# Altium footprint library DCDC_Converter_4_Channel.PcbLib: 29 footprints (part 2 of 2)
Each footprint in its own frame and in the unit in brackets; x right, y up, seen from the top. Pads: shape width x height; smd on the part's side, far side on the other; paste and mask are expansions set on the pad; w line width, h text height; cw(c..) or ccw(c..) is an arc to the next point about the centre after c.
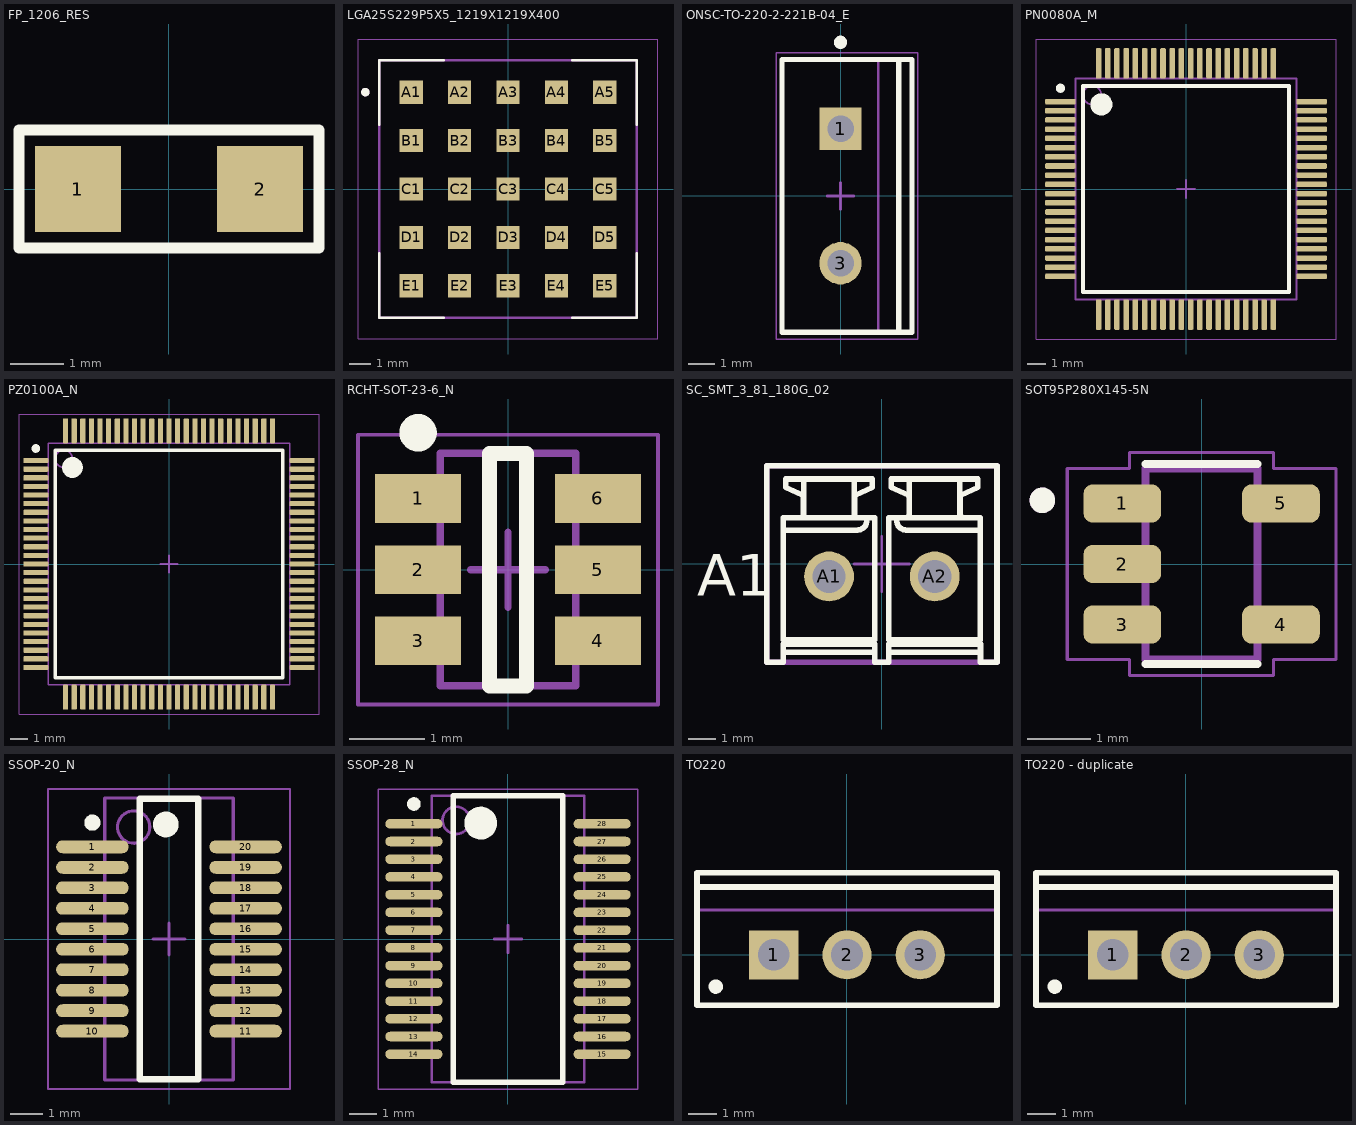
[diagram p1: the footprints below, top view; thin cyan lines are the x and y axes]

## FP_1206_RES [mm] "1206 ellenállás"
height 0.5
pads (2):
  rect 1.6x1.6 smd: 1(-1.7,0) 2(1.7,0)
Top Overlay:
  lines w0.2: -2.8,-1.1 -2.8,1.1 2.8,1.1 2.8,-1.1 -2.8,-1.1
3D body "1206RES.STEP": height 0.62, standoff 0.02, extent -1.6,-0.8 1.6,0.8

## LGA25S229P5X5_1219X1219X400 [mm]
pads (25):
  rect 1.1x1.1 smd: A1(-4.58,4.58) A2(-2.29,4.58) A3(0,4.58) A4(2.29,4.58) A5(4.58,4.58) B1(-4.58,2.29) B2(-2.29,2.29) B3(0,2.29) B4(2.29,2.29) B5(4.58,2.29) C1(-4.58,0) C2(-2.29,0) C3(0,0) C4(2.29,0) C5(4.58,0) D1(-4.58,-2.29) D2(-2.29,-2.29) D3(0,-2.29) D4(2.29,-2.29) D5(4.58,-2.29) E1(-4.58,-4.58) E2(-2.29,-4.58) E3(0,-4.58) E4(2.29,-4.58) E5(4.58,-4.58)
Top Overlay:
  circle w0.2: c-6.75,4.58 r0.1
  lines w0.127: -6.095,-3.05 -6.095,-6.095 -3.05,-6.095 ; -6.095,3.05 -6.095,6.095 -3.05,6.095 ; 3.05,-6.095 6.095,-6.095 6.095,-3.05 ; 3.05,6.095 6.095,6.095 6.095,3.05
Mechanical 13:
  circle w0.2: c-6.75,4.58 r0.1
  lines w0.127: -6.095,-6.095 -6.095,6.095 6.095,6.095 6.095,-6.095 -6.095,-6.095
Mechanical 15:
  lines w0.05: -7.095,-7.095 -7.095,7.095 7.095,7.095 7.095,-7.095 -7.095,-7.095

## ONSC-TO-220-2-221B-04_E [mm] "FM, 2-Leads, Body 10.3x4.85mm, Pitch 5.08mm"
height 19.05
pads (2):
  rect 1.6x1.6 hole 1: 1(0,2.54)
  round 1.6 hole 1: 3(0,-2.54)
Top Overlay:
  circle w0.25: c0,5.8 r0.125
  lines w0.2: 2.195,-5.15 2.195,5.15 ; -2.205,-5.15 -2.205,5.15 2.695,5.15 2.695,-5.15 -2.205,-5.15
Mechanical 13:
  lines w0.1: 1.42,-5.15 1.42,5.15 ; -2.18,-5.15 2.67,-5.15 2.67,5.15 -2.18,5.15 -2.18,-5.15
Mechanical 15:
  lines w0.05: -2.43,-5.4 2.92,-5.4 2.92,5.4 -2.43,5.4 -2.43,-5.4
  lines w0.1: -0.5,0 0.5,0 ; 0,-0.5 0,0.5
3D body: height 19.05, standoff 18.18, extent 1.42,-4.975 2.67,4.975
3D body: height 16.63, standoff 16.25, extent 1.42,-4.975 2.67,-1.925
3D body: height 16.63, standoff 16.25, extent 1.42,1.925 2.67,4.975
3D body: height 16.25, standoff 15.87, extent 1.42,-4.975 2.67,-1.925
3D body: height 16.25, standoff 15.87, extent 1.42,1.925 2.67,4.975
3D body: height 16.99, standoff 16.63, extent 1.42,-4.975 2.67,-1.888
3D body: height 16.99, standoff 16.63, extent 1.42,1.888 2.67,4.975
3D body: height 15.88, standoff 15.51, extent 1.42,-4.975 2.67,-1.888
3D body: height 15.88, standoff 15.51, extent 1.42,1.888 2.67,4.975
3D body: height 17.32, standoff 16.99, extent 1.42,-4.975 2.67,-1.778
3D body: height 17.32, standoff 16.99, extent 1.42,1.778 2.67,4.975
3D body: height 15.52, standoff 15.18, extent 1.42,-4.975 2.67,-1.778
3D body: height 15.52, standoff 15.18, extent 1.42,1.778 2.67,4.975
3D body: height 17.62, standoff 17.32, extent 1.42,-4.975 2.67,-1.601
3D body: height 17.62, standoff 17.32, extent 1.42,1.601 2.67,4.975
3D body: height 15.19, standoff 14.89, extent 1.42,-4.975 2.67,-1.601
3D body: height 15.19, standoff 14.89, extent 1.42,1.601 2.67,4.975
3D body: height 17.86, standoff 17.61, extent 1.42,-4.975 2.67,-1.361
3D body: height 17.86, standoff 17.61, extent 1.42,1.361 2.67,4.975
3D body: height 14.89, standoff 14.65, extent 1.42,-4.975 2.67,-1.361
3D body: height 14.89, standoff 14.65, extent 1.42,1.361 2.67,4.975
3D body: height 18.03, standoff 17.85, extent 1.42,-4.975 2.67,-1.069
3D body: height 18.03, standoff 17.85, extent 1.42,1.069 2.67,4.975
3D body: height 14.65, standoff 14.47, extent 1.42,-4.975 2.67,-1.069
3D body: height 14.65, standoff 14.47, extent 1.42,1.069 2.67,4.975
3D body: height 18.14, standoff 18.03, extent 1.42,-4.975 2.67,-0.737
3D body: height 18.14, standoff 18.03, extent 1.42,0.737 2.67,4.975
3D body: height 14.48, standoff 14.36, extent 1.42,-4.975 2.67,-0.737
3D body: height 14.48, standoff 14.36, extent 1.42,0.737 2.67,4.975
3D body: height 18.18, standoff 18.14, extent 1.42,-4.975 2.67,-0.376
3D body: height 18.18, standoff 18.14, extent 1.42,0.376 2.67,4.975
3D body: height 14.37, standoff 14.33, extent 1.42,-4.975 2.67,-0.376
3D body: height 14.37, standoff 14.33, extent 1.42,0.376 2.67,4.975
3D body: height 14.33, standoff 12.8, extent 1.42,-4.975 2.67,4.975
3D body: height 12.8, standoff 2.79, extent -2.18,-5.15 2.67,5.15
3D body: height 0, standoff -1.6, extent -0.25,-2.925 0.25,-2.155
3D body: height 2.79, standoff 0, extent -0.25,-3.205 0.25,-1.875
3D body: height 0, standoff -1.6, extent -0.25,2.155 0.25,2.925
3D body: height 2.79, standoff 0, extent -0.25,1.875 0.25,3.205

## PCBComponent_1 [mm]

## PN0080A_M [mm] "QFP, 80-Leads, Body 12x12mm, Pitch 0.5mm, IPC Low Density"
height 1.6
pads (80):
  rrect33% 1.65x0.3 smd: 1(-6.825,4.75) 2(-6.825,4.25) 3(-6.825,3.75) 4(-6.825,3.25) 5(-6.825,2.75) 6(-6.825,2.25) 7(-6.825,1.75) 8(-6.825,1.25) 9(-6.825,0.75) 10(-6.825,0.25) 11(-6.825,-0.25) 12(-6.825,-0.75) 13(-6.825,-1.25) 14(-6.825,-1.75) 15(-6.825,-2.25) 16(-6.825,-2.75) 17(-6.825,-3.25) 18(-6.825,-3.75) 19(-6.825,-4.25) 20(-6.825,-4.75) 41(6.825,-4.75) 42(6.825,-4.25) 43(6.825,-3.75) 44(6.825,-3.25) 45(6.825,-2.75) 46(6.825,-2.25) 47(6.825,-1.75) 48(6.825,-1.25) 49(6.825,-0.75) 50(6.825,-0.25) 51(6.825,0.25) 52(6.825,0.75) 53(6.825,1.25) 54(6.825,1.75) 55(6.825,2.25) 56(6.825,2.75) 57(6.825,3.25) 58(6.825,3.75) 59(6.825,4.25) 60(6.825,4.75)
  rrect33% 0.3x1.65 smd: 21(-4.75,-6.825) 22(-4.25,-6.825) 23(-3.75,-6.825) 24(-3.25,-6.825) 25(-2.75,-6.825) 26(-2.25,-6.825) 27(-1.75,-6.825) 28(-1.25,-6.825) 29(-0.75,-6.825) 30(-0.25,-6.825) 31(0.25,-6.825) 32(0.75,-6.825) 33(1.25,-6.825) 34(1.75,-6.825) 35(2.25,-6.825) 36(2.75,-6.825) 37(3.25,-6.825) 38(3.75,-6.825) 39(4.25,-6.825) 40(4.75,-6.825) 61(4.75,6.825) 62(4.25,6.825) 63(3.75,6.825) 64(3.25,6.825) 65(2.75,6.825) 66(2.25,6.825) 67(1.75,6.825) 68(1.25,6.825) 69(0.75,6.825) 70(0.25,6.825) 71(-0.25,6.825) 72(-0.75,6.825) 73(-1.25,6.825) 74(-1.75,6.825) 75(-2.25,6.825) 76(-2.75,6.825) 77(-3.25,6.825) 78(-3.75,6.825) 79(-4.25,6.825) 80(-4.75,6.825)
Top Overlay:
  circle w0.6: c-4.6,4.6 r0.3
  circle w0.25: c-6.825,5.475 r0.125
  lines w0.2: -5.6,-5.6 5.6,-5.6 5.6,5.6 -5.6,5.6 -5.6,-5.6
Mechanical 1:
  text ".Designator" at -3.81,-0.889 h2
Mechanical 13:
  circle w0.1: c-5.1,5.1 r0.5
  lines w0.1: -6,-6 6,-6 6,6 -6,6 -6,-6
Mechanical 15:
  lines w0.05: -8.15,-8.15 8.15,-8.15 8.15,8.15 -8.15,8.15 -8.15,-8.15
  lines w0.1: -0.5,0 0.5,0 ; 0,-0.5 0,0.5
3D body "PN0080A.stp": height 1.56, standoff 0, extent -7,-7 7,7

## PZ0100A_N [mm] "QFP,100-Leads, Body 14x14mm, Pitch 0.5mm, IPC Medium Density"
height 1.6
pads (100):
  rrect33% 1.45x0.3 smd: 1(-7.725,6) 2(-7.725,5.5) 3(-7.725,5) 4(-7.725,4.5) 5(-7.725,4) 6(-7.725,3.5) 7(-7.725,3) 8(-7.725,2.5) 9(-7.725,2) 10(-7.725,1.5) 11(-7.725,1) 12(-7.725,0.5) 13(-7.725,0) 14(-7.725,-0.5) 15(-7.725,-1) 16(-7.725,-1.5) 17(-7.725,-2) 18(-7.725,-2.5) 19(-7.725,-3) 20(-7.725,-3.5) 21(-7.725,-4) 22(-7.725,-4.5) 23(-7.725,-5) 24(-7.725,-5.5) 25(-7.725,-6) 51(7.725,-6) 52(7.725,-5.5) 53(7.725,-5) 54(7.725,-4.5) 55(7.725,-4) 56(7.725,-3.5) 57(7.725,-3) 58(7.725,-2.5) 59(7.725,-2) 60(7.725,-1.5) 61(7.725,-1) 62(7.725,-0.5) 63(7.725,0) 64(7.725,0.5) 65(7.725,1) 66(7.725,1.5) 67(7.725,2) 68(7.725,2.5) 69(7.725,3) 70(7.725,3.5) 71(7.725,4) 72(7.725,4.5) 73(7.725,5) 74(7.725,5.5) 75(7.725,6)
  rrect33% 0.3x1.45 smd: 26(-6,-7.725) 27(-5.5,-7.725) 28(-5,-7.725) 29(-4.5,-7.725) 30(-4,-7.725) 31(-3.5,-7.725) 32(-3,-7.725) 33(-2.5,-7.725) 34(-2,-7.725) 35(-1.5,-7.725) 36(-1,-7.725) 37(-0.5,-7.725) 38(0,-7.725) 39(0.5,-7.725) 40(1,-7.725) 41(1.5,-7.725) 42(2,-7.725) 43(2.5,-7.725) 44(3,-7.725) 45(3.5,-7.725) 46(4,-7.725) 47(4.5,-7.725) 48(5,-7.725) 49(5.5,-7.725) 50(6,-7.725) 76(6,7.725) 77(5.5,7.725) 78(5,7.725) 79(4.5,7.725) 80(4,7.725) 81(3.5,7.725) 82(3,7.725) 83(2.5,7.725) 84(2,7.725) 85(1.5,7.725) 86(1,7.725) 87(0.5,7.725) 88(0,7.725) 89(-0.5,7.725) 90(-1,7.725) 91(-1.5,7.725) 92(-2,7.725) 93(-2.5,7.725) 94(-3,7.725) 95(-3.5,7.725) 96(-4,7.725) 97(-4.5,7.725) 98(-5,7.725) 99(-5.5,7.725) 100(-6,7.725)
Top Overlay:
  circle w0.25: c-7.725,6.7 r0.125
  circle w0.6: c-5.6,5.6 r0.3
  lines w0.2: -6.6,-6.6 -6.6,6.6 6.6,6.6 6.6,-6.6 -6.6,-6.6
Mechanical 1:
  text ".Designator" at -1.524,-0.508 h1.02
Mechanical 13:
  circle w0.1: c-6.1,6.1 r0.5
  lines w0.1: -7,-7 -7,7 7,7 7,-7 -7,-7
Mechanical 15:
  lines w0.05: -8.7,-8.7 -8.7,8.7 8.7,8.7 8.7,-8.7 -8.7,-8.7
  lines w0.1: -0.5,0 0.5,0 ; 0,-0.5 0,0.5
3D body "LQFP100.stp": height 1.6, standoff 0, extent -8,-8 8,8

## RCHT-SOT-23-6_N [mm] "SOT23, 6-Leads, Body 3.1x1.8mm, Pitch 0.95mm, IPC Medium Density"
height 1.3
pads (6):
  rect 1.15x0.65 smd: 1(-1.2,0.95) 2(-1.2,0) 3(-1.2,-0.95) 4(1.2,-0.95) 5(1.2,0) 6(1.2,0.95)
Top Overlay:
  circle w0.25: c-1.2,1.825 r0.125
  lines w0.2: -0.25,-1.55 -0.25,1.55 0.25,1.55 0.25,-1.55 -0.25,-1.55
Mechanical 13:
  lines w0.1: -0.9,-1.55 0.9,-1.55 0.9,1.55 -0.9,1.55 -0.9,-1.55
Mechanical 15:
  lines w0.05: -2,-1.8 2,-1.8 2,1.8 -2,1.8 -2,-1.8
  lines w0.1: -0.5,0 0.5,0 ; 0,-0.5 0,0.5
3D body: height 1.3, standoff 0, extent -0.9,-1.55 0.9,1.55

## SC_SMT_3_81_180G_02 [mm] "OMNIMATE Signal - Serie BC/SC 3.81  SC-SMT 3.81/02/180G 3.2"
height 9.2
pads (2):
  round 1.8 hole 1.2: A1(-1.9,-0.45) A2(1.91,-0.45)
Top Overlay:
  lines w0.2: -3.555,-3.185 -0.245,-3.185 ; -3.555,-2.415 -3.555,1.225 -0.885,1.225 ccw(c-0.885,1.575) -0.535,1.575 ; -2.805,1.665 -2.805,3.055 ; 0.535,1.575 ccw(c0.885,1.575) 0.885,1.225 3.555,1.225 3.555,-2.415 ; 2.805,1.665 2.805,3.055 ; 3.555,-3.185 0.255,-3.185 3.565,-3.185 ; 3.565,-3.535 3.565,-2.885 0.255,-2.885 ; 0.255,-2.885 3.555,-2.885 3.555,-3.535 4.155,-3.535 4.155,3.535 -4.155,3.535 -4.155,-3.535 -3.555,-3.535 -3.555,-2.885 -0.245,-2.885 -0.245,-3.535 0.255,-3.535 0.255,-2.885 ; -3.555,-2.735 -0.255,-2.735 -0.255,1.665 -0.875,1.665 cw(c-0.875,1.765) -0.975,1.765 -0.975,2.433 cw(c-0.915,2.433) -0.94,2.487 -0.345,2.765 -0.345,3.065 -3.465,3.065 -3.465,2.765 -2.86,2.483 cw(c-2.885,2.428) -2.825,2.428 -2.825,1.765 cw(c-2.925,1.765) -2.925,1.665 -3.555,1.665 -3.555,-2.735 ; -2.815,1.665 -0.995,1.665 -0.995,3.055 -2.815,3.055 -2.815,1.665 ; 0.255,-2.735 0.255,1.665 0.885,1.665 ccw(c0.885,1.765) 0.985,1.765 0.985,2.428 ccw(c0.925,2.428) 0.95,2.483 0.345,2.765 0.345,3.065 3.465,3.065 3.465,2.765 2.87,2.487 ccw(c2.895,2.433) 2.835,2.433 2.835,1.765 ccw(c2.935,1.765) 2.935,1.665 3.555,1.665 3.555,-2.735 0.255,-2.735 ; 0.995,1.665 0.995,3.055 2.815,3.055 2.815,1.665 0.995,1.665
  text "A1" at -6.662,-1.145 h1.5
Mechanical 15:
  lines w0.1: -1,0 1,0 ; 0,-1 0,1
  lines w0.2: -4.155,-3.535 4.155,-3.535 4.155,3.535 -4.155,3.535 -4.155,-3.535
3D body "SC-SMT_3.81_2_180G3.2SN_SW_1862920000.stp": height 9.21, standoff -3.19, extent -4.155,-3.535 4.155,3.535

## SOT95P280X145-5N [mm]
pads (5):
  rrect50% 1.22x0.6 smd: 1(-1.245,0.95) 2(-1.245,0) 3(-1.245,-0.95) 4(1.245,-0.95) 5(1.245,0.95)
Top Overlay:
  circle w0.2: c-2.5,1 r0.1
  lines w0.127: -0.88,-1.57 0.88,-1.57 ; -0.88,1.57 0.88,1.57
Mechanical 13:
  circle w0.2: c-2.5,1 r0.1
  lines w0.127: -0.88,-1.5 -0.88,1.5 0.88,1.5 0.88,-1.5 -0.88,-1.5
Mechanical 15:
  lines w0.05: -2.11,-1.5 -1.13,-1.5 -1.13,-1.75 1.13,-1.75 1.13,-1.5 2.11,-1.5 2.11,1.5 1.13,1.5 1.13,1.75 -1.13,1.75 -1.13,1.5 -2.11,1.5 -2.11,-1.5

## SSOP-20_N [mm] "SOP, 20-Leads, Body 8.6x3.9mm, Pitch 0.635mm, IPC Medium Density"
height 1.76
pads (20):
  oval 2.25x0.4 smd: 1(-2.375,2.857) 2(-2.375,2.222) 3(-2.375,1.587) 4(-2.375,0.953) 5(-2.375,0.318) 6(-2.375,-0.318) 7(-2.375,-0.953) 8(-2.375,-1.587) 9(-2.375,-2.222) 10(-2.375,-2.857) 11(2.375,-2.857) 12(2.375,-2.222) 13(2.375,-1.587) 14(2.375,-0.953) 15(2.375,-0.318) 16(2.375,0.318) 17(2.375,0.953) 18(2.375,1.587) 19(2.375,2.222) 20(2.375,2.857)
Top Overlay:
  circle w0.4: c-0.1,3.55 r0.2
  circle w0.25: c-2.375,3.608 r0.125
  lines w0.2: -0.9,-4.35 0.9,-4.35 0.9,4.35 -0.9,4.35 -0.9,-4.35
Mechanical 13:
  circle w0.1: c-1.095,3.47 r0.5
  lines w0.1: -1.995,-4.37 1.995,-4.37 1.995,4.37 -1.995,4.37 -1.995,-4.37
Mechanical 15:
  lines w0.05: -3.75,-4.65 3.75,-4.65 3.75,4.65 -3.75,4.65 -3.75,-4.65
  lines w0.1: -0.5,0 0.5,0 ; 0,-0.5 0,0.5
3D body: height 1.76, standoff 0.1, extent -1.995,-4.37 1.995,4.37

## SSOP-28_N [mm] "SOP, 28-Leads, Body 10.2x5.3mm, Pitch 0.65mm, IPC Medium Density"
height 2
pads (28):
  oval 2.1x0.35 smd: 1(-3.45,4.225) 2(-3.45,3.575) 3(-3.45,2.925) 4(-3.45,2.275) 5(-3.45,1.625) 6(-3.45,0.975) 7(-3.45,0.325) 8(-3.45,-0.325) 9(-3.45,-0.975) 10(-3.45,-1.625) 11(-3.45,-2.275) 12(-3.45,-2.925) 13(-3.45,-3.575) 14(-3.45,-4.225) 15(3.45,-4.225) 16(3.45,-3.575) 17(3.45,-2.925) 18(3.45,-2.275) 19(3.45,-1.625) 20(3.45,-0.975) 21(3.45,-0.325) 22(3.45,0.325) 23(3.45,0.975) 24(3.45,1.625) 25(3.45,2.275) 26(3.45,2.925) 27(3.45,3.575) 28(3.45,4.225)
Top Overlay:
  circle w0.6: c-1,4.25 r0.3
  circle w0.25: c-3.45,4.95 r0.125
  lines w0.2: -2,-5.25 2,-5.25 2,5.25 -2,5.25 -2,-5.25
Mechanical 13:
  circle w0.1: c-1.9,4.35 r0.5
  lines w0.1: -2.8,-5.25 2.8,-5.25 2.8,5.25 -2.8,5.25 -2.8,-5.25
Mechanical 15:
  lines w0.05: -4.75,-5.5 4.75,-5.5 4.75,5.5 -4.75,5.5 -4.75,-5.5
  lines w0.1: -0.5,0 0.5,0 ; 0,-0.5 0,0.5
3D body: height 2, standoff 0.05, extent -2.8,-5.25 2.8,5.25

## TO220 [mm] "TO, Thru-Hole, Vertical, Heatsink Mounted; 3 In-Line Leads; Pitch 2.54 mm"
height 19.7
pads (3):
  rect 1.7x1.7 hole 1.1: 1(-2.54,0)
  round 1.7 hole 1.1: 2(0,0) 3(2.54,0)
Top Overlay:
  circle w0.25: c-4.55,-1.1 r0.125
  lines w0.2: -5.2,2.35 5.2,2.35 ; -5.2,-1.75 5.2,-1.75 5.2,2.85 -5.2,2.85 -5.2,-1.75
Mechanical 13:
  lines w0.1: -5.2,1.55 5.2,1.55 ; -5.2,-1.75 -5.2,2.85 5.2,2.85 5.2,-1.75 -5.2,-1.75
Mechanical 15:
  lines w0.1: -0.5,0 0.5,0 ; 0,-0.5 0,0.5
3D body: height 13.05, standoff 3.5, extent -5.25,-1.8 5.25,2.9
3D body: height 19.7, standoff 13.05, extent -5.199,1.551 5.199,2.849

## TO220 - duplicate [mm] "TO, Thru-Hole, Vertical, Heatsink Mounted; 3 In-Line Leads; Pitch 2.54 mm"
height 19.7
pads (3):
  rect 1.7x1.7 hole 1.1: 1(-2.54,0)
  round 1.7 hole 1.1: 2(0,0) 3(2.54,0)
Top Overlay:
  circle w0.25: c-4.55,-1.1 r0.125
  lines w0.2: -5.2,2.35 5.2,2.35 ; -5.2,-1.75 5.2,-1.75 5.2,2.85 -5.2,2.85 -5.2,-1.75
Mechanical 13:
  lines w0.1: -5.2,1.55 5.2,1.55 ; -5.2,-1.75 -5.2,2.85 5.2,2.85 5.2,-1.75 -5.2,-1.75
Mechanical 15:
  lines w0.1: -0.5,0 0.5,0 ; 0,-0.5 0,0.5
3D body: height 13.05, standoff 3.5, extent -5.25,-1.8 5.25,2.9
3D body: height 19.7, standoff 13.05, extent -5.199,1.551 5.199,2.849